# Altium schematic symbol library SCH - SWITCHES - CAS-D20B1.SchLib: 2 symbols
Pins are listed as number, name and electrical type; pins without a type are passive.

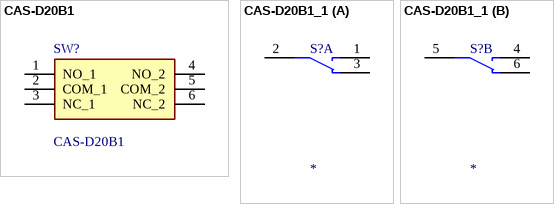
[diagram p0: symbols CAS-D20B1 to CAS-D20B1_1]

## CAS-D20B1
designator SW?
SWITCH SLIDE SPDTX2 100MA 6V; Manufacturer_Name: Copal Electronics; Geometry.Height: 2.5mm; Mouser Part Number: *; Mouser Price/Stock: *; Manufacturer_Part_Number: CAS-D20B1; Datasheet Link: https://www.nidec-copal-electronics.com/e/catalog/switch/cas.pdf
footprint CASD20B1
pins: 1 NO_1, 2 COM_1, 3 NC_1, 4 NO_2, 5 COM_2, 6 NC_2

## CAS-D20B1_1
designator S?
part A pins: 1 NO1, 2 COM1, 3 NC1
part B pins: 4 NO2, 5 COM2, 6 NC2